# Altium footprint library custom_components.PcbLib: 10 footprints
Each footprint in its own frame and in the unit in brackets; x right, y up, seen from the top. Pads: shape width x height; smd on the part's side, far side on the other; paste and mask are expansions set on the pad; w line width, h text height; cw(c..) or ccw(c..) is an arc to the next point about the centre after c.
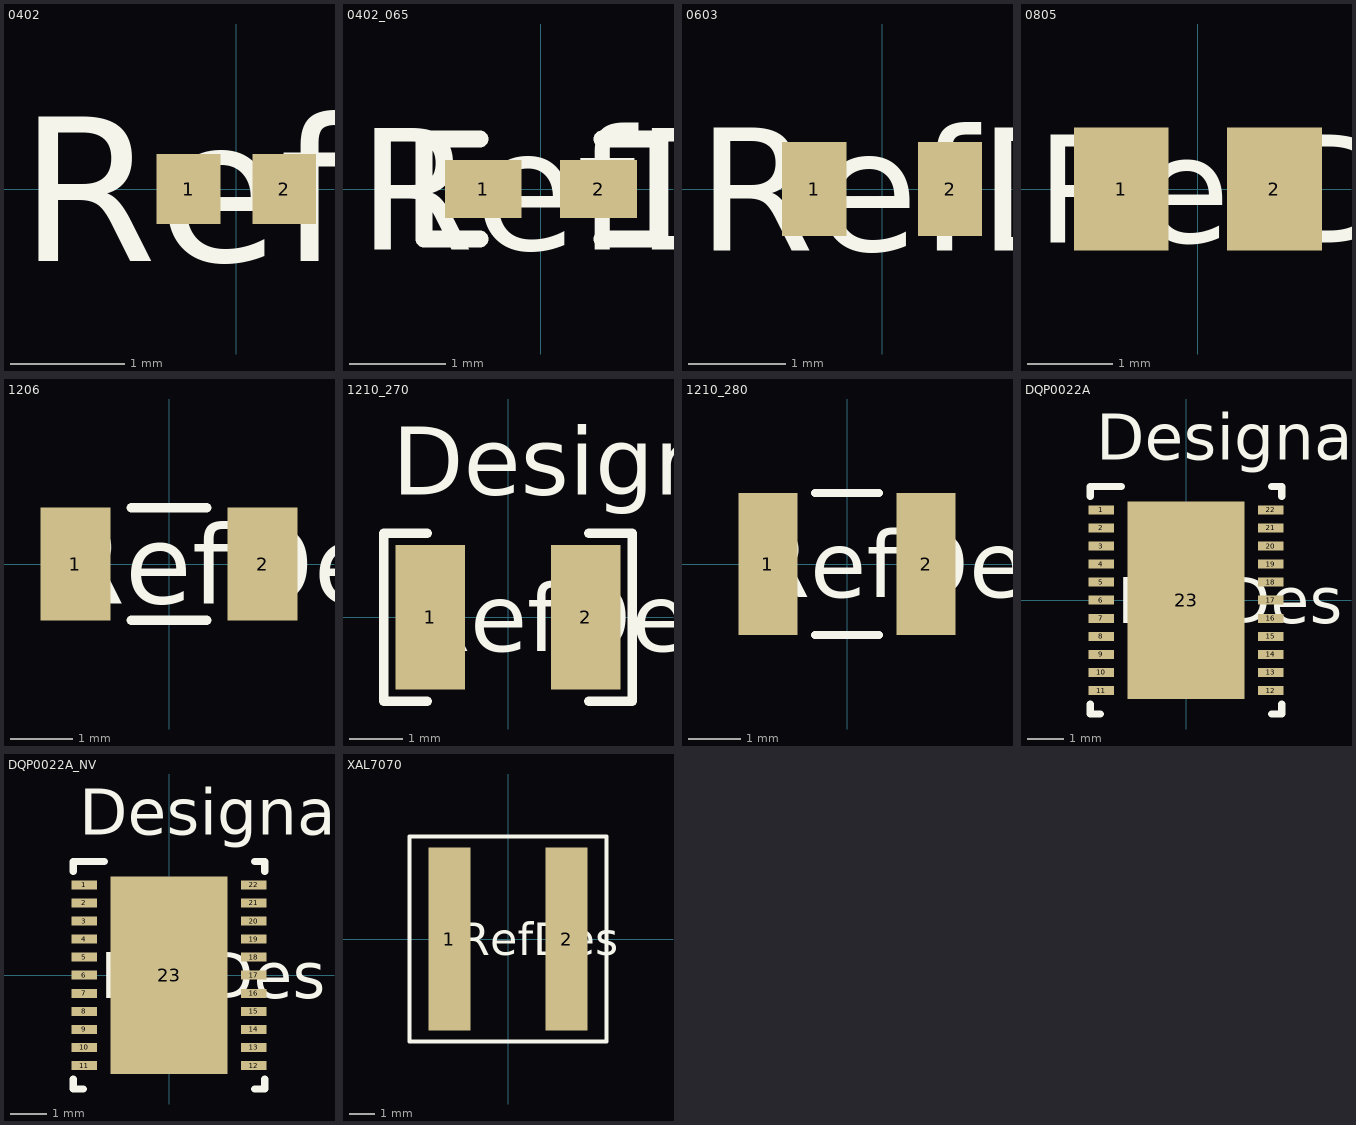
[diagram p0: the footprints below, top view; thin cyan lines are the x and y axes]

## 0402 [mil]
pads (2):
  rect 22x24 smd: 1(-16.5,0) 2(16.5,0)
Top Overlay:
  text "RefDes" at -75,-25 h50
3D body: height 10, standoff 0, extent 0,0 10,10

## 0402_065 [mm]
pads (2):
  rect 0.8x0.6 smd paste+0 mask+0.051: 1(-0.6,0) 2(0.6,0)
Top Overlay:
  lines w0.178: -0.635,-0.521 -1.219,-0.521 -1.219,0.521 -0.635,0.521 ; 0.635,-0.521 1.219,-0.521 1.219,0.521 0.635,0.521
  text "RefDes" at -1.905,-0.635 h1.27
3D body: height 0.25, standoff 0, extent 0,0 0.254,0.254

## 0603 [mil]
pads (2):
  rect 26x38 smd: 1(-27.5,0) 2(27.5,0)
Top Overlay:
  text "RefDes" at -75,-25 h50
3D body: height 10, standoff 0, extent 0,0 10,10

## 0805 [mil]
pads (2):
  rect 44x57 smd: 1(-35.5,0) 2(35.5,0)
Top Overlay:
  text "RefDes" at -75,-25 h50
3D body: height 10, standoff 0, extent 0,0 10,10

## 1206 [mil]
pads (2):
  rect 44x71 smd: 1(-59,0) 2(59,0)
Top Overlay:
  lines w6: -23.9,-35.5 23.9,-35.5 ; -23.9,35.5 23.9,35.5
  text "RefDes" at -75,-25 h50
3D body: height 10, standoff 0, extent 0,0 10,10

## 1210_270 [mm]
pads (2):
  rect 1.3x2.7 smd paste+0 mask+0.051: 1(-1.45,0) 2(1.45,0)
Top Overlay:
  lines w0.178: -1.511,-1.568 -2.316,-1.568 -2.316,1.568 -1.511,1.568 ; 1.511,-1.568 2.316,-1.568 2.316,1.568 1.511,1.568
  text "Designator53" at -2.159,2.286 h1.27
  text "RefDes" at -1.905,-0.635 h1.27
3D body: height 0.25, standoff 0, extent 0,0 0.254,0.254

## 1210_280 [mil]
pads (2):
  rect 44x106 smd: 1(-59,0) 2(59,0)
Top Overlay:
  lines w6: -23.9,-53 23.9,-53 ; -23.9,53 23.9,53
  text "RefDes" at -75,-25 h50
3D body: height 10, standoff 0, extent 0,0 10,10

## DQP0022A [mm]
pads (23):
  rect 0.7x0.25 smd paste+0 mask+0.051: 1(-2.35,2.5) 2(-2.35,2) 3(-2.35,1.5) 4(-2.35,1) 5(-2.35,0.5) 6(-2.35,0) 7(-2.35,-0.5) 8(-2.35,-1) 9(-2.35,-1.5) 10(-2.35,-2) 11(-2.35,-2.5) 12(2.35,-2.5) 13(2.35,-2) 14(2.35,-1.5) 15(2.35,-1) 16(2.35,-0.5) 17(2.35,0) 18(2.35,0.5) 19(2.35,1) 20(2.35,1.5) 21(2.35,2) 22(2.35,2.5)
  rect 3.24x5.479 smd paste-2.727 mask+0.051: 23(0,0)
Top Overlay:
  lines w0.2: -2.65,-2.87 -2.65,-3.15 -2.37,-3.15 ; -2.65,2.87 -2.65,3.15 -1.795,3.15 ; 2.37,-3.15 2.65,-3.15 2.65,-2.87 ; 2.37,3.15 2.65,3.15 2.65,2.87
  text "Designator500" at -2.489,3.886 h1.27
  text "RefDes" at -1.905,-0.635 h1.27
Top Paste:
  drawing of 8 lines, arcs and shapes, not listed
3D body: height 0.25, standoff 0, extent 0,0 0.254,0.254

## DQP0022A_NV [mm]
pads (23):
  rect 0.7x0.25 smd paste+0 mask+0.051: 1(-2.35,2.5) 2(-2.35,2) 3(-2.35,1.5) 4(-2.35,1) 5(-2.35,0.5) 6(-2.35,0) 7(-2.35,-0.5) 8(-2.35,-1) 9(-2.35,-1.5) 10(-2.35,-2) 11(-2.35,-2.5) 12(2.35,-2.5) 13(2.35,-2) 14(2.35,-1.5) 15(2.35,-1) 16(2.35,-0.5) 17(2.35,0) 18(2.35,0.5) 19(2.35,1) 20(2.35,1.5) 21(2.35,2) 22(2.35,2.5)
  rect 3.24x5.479 smd paste-2.727 mask+0.051: 23(0,0)
Top Overlay:
  lines w0.2: -2.65,-2.87 -2.65,-3.15 -2.37,-3.15 ; -2.65,2.87 -2.65,3.15 -1.795,3.15 ; 2.37,-3.15 2.65,-3.15 2.65,-2.87 ; 2.37,3.15 2.65,3.15 2.65,2.87
  text "Designator501" at -2.489,3.886 h1.27
  text "RefDes" at -1.905,-0.635 h1.27
Top Paste:
  drawing of 8 lines, arcs and shapes, not listed
3D body: height 0.25, standoff 0, extent 0,0 0.254,0.254

## XAL7070 [mil]
pads (2):
  rect 64x281 smd: 1(-90,0) 2(90,0)
Top Overlay:
  lines w6: -151.5,-157.5 151.5,-157.5 151.5,157.5 -151.5,157.5 -151.5,-157.5
  text "RefDes" at -75,-25 h50
3D body: height 10, standoff 0, extent 0,0 10,10